# Altium footprint library MLACHD_D.PCBLIB: 41 footprints (part 2 of 3)
Each footprint in its own frame and in the unit in brackets; x right, y up, seen from the top. Pads: shape width x height; smd on the part's side, far side on the other; paste and mask are expansions set on the pad; w line width, h text height; cw(c..) or ccw(c..) is an arc to the next point about the centre after c.
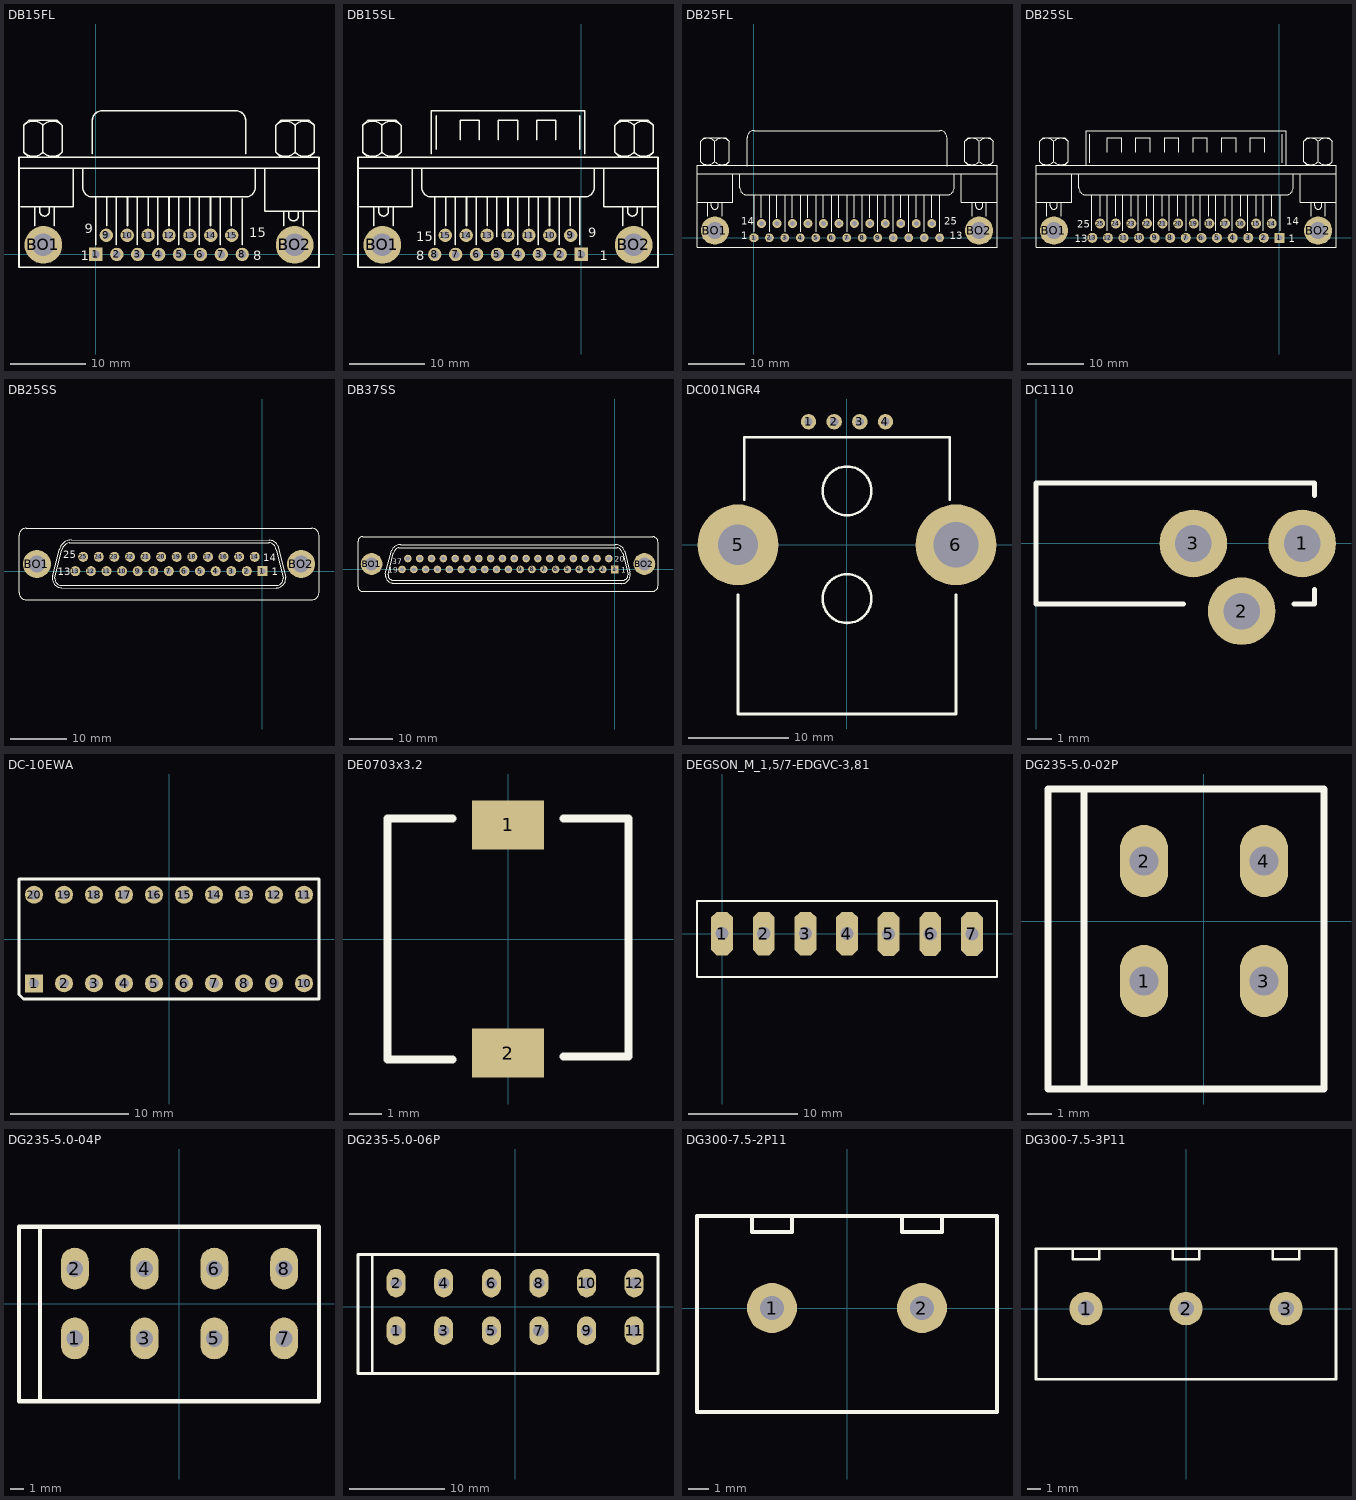
[diagram p1: the footprints below, top view; thin cyan lines are the x and y axes]

## DB15FL [mil]
pads (17):
  rect 70x70 hole 40: 1(0,0)
  round 70 hole 40: 2(109.17,0) 3(218.33,0) 4(327.5,0) 5(436.67,0) 6(545.83,0) 7(655,0) 8(764.17,0) 9(54.17,100) 10(163.33,100) 11(272.5,100) 12(381.67,100) 13(490.83,100) 14(600,100) 15(709.17,100)
  round 196.67 hole 118.33: BO1(-274.17,50) BO2(1037.5,50)
TopOverlay:
  lines w8: -401.67,450 1165,450 ; -393.33,250 -118.33,250 -118.33,450 ; -376.75,533.25 ccw(c-326.67,583.33) -276.58,533.25 ; -376.75,675.09 cw(c-326.67,625) -276.58,675.09 ; -351.67,508.33 -376.67,533.33 -376.67,675 -351.67,700 -201.67,700 -176.67,675 -176.67,533.33 -201.67,508.33 ; -318.33,150 -318.33,250 ; -293.33,250 -293.33,225 ccw(c-268.33,225) -243.33,225 -243.33,250 ; -276.75,533.25 ccw(c-226.67,583.33) -176.58,533.25 ; -276.75,675.09 cw(c-226.67,625) -176.58,675.09 ; -276.67,533.33 -276.67,675 ; -218.33,150 -218.33,250 ; -68.33,450 -68.33,350 ccw(c-18.33,350) -18.33,300 781.67,300 ccw(c781.67,350) 831.67,350 831.67,450 ; -18.33,525 -18.33,700 cw(c31.67,700) 31.67,750 731.67,750 cw(c731.67,700) 781.67,700 781.67,525 ; -1.67,50 -1.67,300 ; 56.67,150 56.67,300 ; 106.67,50 106.67,300 ; 165,150 165,300 ; 215,50 215,300 ; 273.33,150 273.33,300 ; 323.33,50 323.33,300 ; 381.67,150 381.67,300 ; 431.67,50 431.67,300 ; 490,150 490,300 ; 540,50 540,300 ; 598.33,150 598.33,300 ; 648.33,50 648.33,300 ; 706.67,150 706.67,300 ; 765,50 765,291.67 ; 881.67,450 881.67,225 1156.67,225 ; 939.91,533.25 ccw(c990,583.33) 1040.09,533.25 ; 939.91,675.09 cw(c990,625) 1040.09,675.09 ; 965,508.33 940,533.33 940,675 965,700 1115,700 1140,675 1140,533.33 1115,508.33 ; 981.67,150 981.67,225 ; 1006.67,225 1006.67,200 ccw(c1031.67,200) 1056.67,200 1056.67,225 ; 1039.91,533.25 ccw(c1090,583.33) 1140.09,533.25 ; 1039.91,675.09 cw(c1090,625) 1140.09,675.09 ; 1040,533.33 1040,675 ; 1081.67,150 1081.67,225 ; -401.67,-66.67 1165,-66.67 1165,508.33 -401.67,508.33 -401.67,-66.67
  text "1" at -78.33,-30 h50
  text "9" at -58.33,110 h50
  text "15" at 801.67,90 h50
  text "8" at 821.67,-30 h50

## DB15SL [mil]
pads (17):
  rect 70x70 hole 40: 1(0,0)
  round 70 hole 40: 2(-109.17,0) 3(-218.33,0) 4(-327.5,0) 5(-436.67,0) 6(-545.83,0) 7(-655,0) 8(-764.17,0) 9(-54.17,100) 10(-163.33,100) 11(-272.5,100) 12(-381.67,100) 13(-490.83,100) 14(-600,100) 15(-709.17,100)
  round 196.67 hole 118.33: BO1(-1037.5,50) BO2(274.17,50)
TopOverlay:
  lines w8: -1165,450 401.67,450 ; -1156.67,250 -881.67,250 -881.67,450 ; -1140.09,533.25 ccw(c-1090,583.33) -1039.91,533.25 ; -1140.09,675.09 cw(c-1090,625) -1039.91,675.09 ; -1115,508.33 -1140,533.33 -1140,675 -1115,700 -965,700 -940,675 -940,533.33 -965,508.33 ; -1081.67,150 -1081.67,250 ; -1056.67,250 -1056.67,225 ccw(c-1031.67,225) -1006.67,225 -1006.67,250 ; -1040.09,533.25 ccw(c-990,583.33) -939.91,533.25 ; -1040.09,675.09 cw(c-990,625) -939.91,675.09 ; -1040,533.33 -1040,675 ; -981.67,150 -981.67,250 ; -831.67,450 -831.67,350 ccw(c-781.67,350) -781.67,300 18.33,300 ccw(c18.33,350) 68.33,350 68.33,450 ; -781.67,525 -781.67,750 18.33,750 18.33,525 ; -765,50 -765,300 ; -756.67,550 -756.67,725 ; -706.67,150 -706.67,300 ; -656.67,50 -656.67,300 ; -631.67,600 -631.67,700 -531.67,700 -531.67,600 ; -598.33,150 -598.33,300 ; -548.33,50 -548.33,300 ; -490,150 -490,300 ; -440,91.67 -440,300 ; -431.67,600 -431.67,700 -331.67,700 -331.67,600 ; -381.67,150 -381.67,300 ; -331.67,50 -331.67,300 ; -273.33,150 -273.33,300 ; -231.67,600 -231.67,700 -131.67,700 -131.67,600 ; -223.33,50 -223.33,300 ; -165,150 -165,300 ; -115,50 -115,300 ; -56.67,150 -56.67,300 ; -6.67,50 -6.67,300 ; -6.67,550 -6.67,725 ; 118.33,450 118.33,250 393.33,250 ; 176.58,533.25 ccw(c226.67,583.33) 276.75,533.25 ; 176.58,675.09 cw(c226.67,625) 276.75,675.09 ; 201.67,508.33 176.67,533.33 176.67,675 201.67,700 351.67,700 376.67,675 376.67,533.33 351.67,508.33 ; 218.33,150 218.33,250 ; 243.33,250 243.33,225 ccw(c268.33,225) 293.33,225 293.33,250 ; 276.58,533.25 ccw(c326.67,583.33) 376.75,533.25 ; 276.58,675.09 cw(c326.67,625) 376.75,675.09 ; 276.67,533.33 276.67,675 ; 318.33,150 318.33,250 ; -1165,-66.67 -1165,508.33 401.67,508.33 401.67,-66.67 -1165,-66.67
  text "15" at -861.67,70 h50
  text "8" at -861.67,-30 h50
  text "1" at 98.33,-30 h50
  text "9" at 38.33,90 h50

## DB25FL [mil]
pads (27):
  oct 62x62 hole 35: 1(0,0)
  round 62 hole 35: 2(108.33,0) 3(216.67,0) 4(325,0) 5(433.33,0) 6(541.67,0) 7(650,0) 8(758.33,0) 9(866.67,0) 10(975,0) 11(1083.33,0) 12(1191.67,0) 13(1300,0) 14(53.33,100) 15(161.67,100) 16(270,100) 17(378.33,100) 18(486.67,100) 19(595,100) 20(703.33,100) 21(811.67,100) 22(920,100) 23(1028.33,100) 24(1136.67,100) 25(1245,100)
  round 196.67 hole 118.33: BO1(-273.33,50) BO2(1576.67,50)
TopOverlay:
  lines w8: -398.33,250 -148.33,250 -148.33,450 ; -398.33,450 1701.67,450 ; -373.42,533.25 ccw(c-323.33,583.33) -273.25,533.25 ; -373.42,675.09 cw(c-323.33,625) -273.25,675.09 ; -348.33,508.33 -373.33,533.33 -373.33,675 -348.33,700 -198.33,700 -173.33,675 -173.33,533.33 -198.33,508.33 ; -323.33,150 -323.33,250 ; -298.33,250 -298.33,225 ccw(c-273.33,225) -248.33,225 -248.33,250 ; -273.42,533.25 ccw(c-223.33,583.33) -173.25,533.25 ; -273.42,675.09 cw(c-223.33,625) -173.25,675.09 ; -273.33,533.33 -273.33,675 ; -223.33,150 -223.33,250 ; -98.33,450 -98.33,350 ccw(c-48.33,350) -48.33,300 1351.67,300 ccw(c1351.67,350) 1401.67,350 1401.67,450 ; -48.33,500 -48.33,700 cw(c1.67,700) 1.67,750 1301.67,750 cw(c1301.67,700) 1351.67,700 1351.67,500 ; 1.67,41.67 1.67,300 ; 51.67,141.67 51.67,300 ; 110,41.67 110,300 ; 160,141.67 160,300 ; 218.33,41.67 218.33,300 ; 268.33,141.67 268.33,300 ; 326.67,41.67 326.67,300 ; 376.67,141.67 376.67,300 ; 435,41.67 435,300 ; 485,141.67 485,300 ; 543.33,41.67 543.33,300 ; 593.33,141.67 593.33,300 ; 651.67,41.67 651.67,300 ; 701.67,141.67 701.67,300 ; 760,41.67 760,300 ; 810,141.67 810,300 ; 868.33,41.67 868.33,300 ; 918.33,141.67 918.33,300 ; 976.67,41.67 976.67,300 ; 1026.67,141.67 1026.67,300 ; 1085,41.67 1085,300 ; 1135,141.67 1135,300 ; 1193.33,41.67 1193.33,300 ; 1243.33,141.67 1243.33,300 ; 1301.67,41.67 1301.67,300 ; 1451.67,450 1451.67,250 1701.67,250 ; 1476.58,533.25 ccw(c1526.67,583.33) 1576.75,533.25 ; 1476.58,675.09 cw(c1526.67,625) 1576.75,675.09 ; 1501.67,508.33 1476.67,533.33 1476.67,675 1501.67,700 1651.67,700 1676.67,675 1676.67,533.33 1651.67,508.33 ; 1526.67,150 1526.67,250 ; 1551.67,250 1551.67,225 ccw(c1576.67,225) 1601.67,225 1601.67,250 ; 1576.58,533.25 ccw(c1626.67,583.33) 1676.75,533.25 ; 1576.58,675.09 cw(c1626.67,625) 1676.75,675.09 ; 1576.67,533.33 1576.67,675 ; 1626.67,150 1626.67,250 ; -398.33,-66.67 -398.33,508.33 1701.67,508.33 1701.67,-66.67 -398.33,-66.67
  text "13" at 1371.67,-10 h50
  text "25" at 1331.67,90 h50
  text "14" at -88.33,90 h50
  text "1" at -88.33,-10 h50

## DB25SL [mil]
pads (27):
  rect 70x70 hole 40: 1(0,0)
  round 70 hole 40: 2(-109.17,0) 3(-218.33,0) 4(-327.5,0) 5(-436.67,0) 6(-545.83,0) 7(-655,0) 8(-764.17,0) 9(-873.33,0) 10(-982.5,0) 11(-1091.67,0) 12(-1200.83,0) 13(-1310,0) 14(-54.17,100) 15(-163.33,100) 16(-272.5,100) 17(-381.67,100) 18(-490.83,100) 19(-600,100) 20(-709.17,100) 21(-818.33,100) 22(-927.5,100) 23(-1036.67,100) 24(-1145.83,100) 25(-1255,100)
  round 196.67 hole 118.33: BO1(-1579.17,50) BO2(270.83,50)
TopOverlay:
  lines w8: -1704.17,250 -1454.17,250 -1454.17,450 ; -1704.17,450 395.83,450 ; -1679.25,533.25 ccw(c-1629.17,583.33) -1579.08,533.25 ; -1679.25,675.09 cw(c-1629.17,625) -1579.08,675.09 ; -1654.17,508.33 -1679.17,533.33 -1679.17,675 -1654.17,700 -1504.17,700 -1479.17,675 -1479.17,533.33 -1504.17,508.33 ; -1629.17,150 -1629.17,250 ; -1604.17,250 -1604.17,225 ccw(c-1579.17,225) -1554.17,225 -1554.17,250 ; -1579.25,533.25 ccw(c-1529.17,583.33) -1479.08,533.25 ; -1579.25,675.09 cw(c-1529.17,625) -1479.08,675.09 ; -1579.17,533.33 -1579.17,675 ; -1529.17,150 -1529.17,250 ; -1404.17,450 -1404.17,350 ccw(c-1354.17,350) -1354.17,300 45.83,300 ccw(c45.83,350) 95.83,350 95.83,450 ; -1354.17,508.33 -1354.17,750 45.83,750 45.83,508.33 ; -1329.17,525 -1329.17,725 ; -1312.5,50 -1312.5,300 ; -1254.17,150 -1254.17,300 ; -1204.17,50 -1204.17,300 ; -1204.17,600 -1204.17,700 -1104.17,700 -1104.17,600 ; -1145.83,150 -1145.83,300 ; -1095.83,50 -1095.83,300 ; -1037.5,150 -1037.5,300 ; -1004.17,600 -1004.17,700 -904.17,700 -904.17,600 ; -987.5,50 -987.5,300 ; -929.17,150 -929.17,300 ; -879.17,50 -879.17,300 ; -820.83,150 -820.83,300 ; -804.17,600 -804.17,700 -704.17,700 -704.17,600 ; -770.83,50 -770.83,300 ; -712.5,150 -712.5,300 ; -654.17,50 -654.17,300 ; -604.17,150 -604.17,300 ; -604.17,600 -604.17,700 -504.17,700 -504.17,600 ; -554.17,50 -554.17,300 ; -495.83,150 -495.83,300 ; -445.83,50 -445.83,300 ; -404.17,600 -404.17,700 -304.17,700 -304.17,600 ; -379.17,150 -379.17,300 ; -329.17,50 -329.17,300 ; -270.83,150 -270.83,300 ; -220.83,50 -220.83,300 ; -204.17,600 -204.17,700 -104.17,700 -104.17,600 ; -162.5,150 -162.5,300 ; -112.5,50 -112.5,300 ; -54.17,150 -54.17,300 ; 4.17,50 4.17,300 ; 20.83,525 20.83,725 ; 145.83,450 145.83,250 395.83,250 ; 170.75,533.25 ccw(c220.83,583.33) 270.92,533.25 ; 170.75,675.09 cw(c220.83,625) 270.92,675.09 ; 195.83,508.33 170.83,533.33 170.83,675 195.83,700 345.83,700 370.83,675 370.83,533.33 345.83,508.33 ; 220.83,150 220.83,250 ; 245.83,250 245.83,225 ccw(c270.83,225) 295.83,225 295.83,250 ; 270.75,533.25 ccw(c320.83,583.33) 370.92,533.25 ; 270.75,675.09 cw(c320.83,625) 370.92,675.09 ; 270.83,533.33 270.83,675 ; 320.83,150 320.83,250 ; -1704.17,-66.67 395.83,-66.67 395.83,508.33 -1704.17,508.33 -1704.17,-66.67
  text "25" at -1414.17,70 h50
  text "13" at -1434.17,-30 h50
  text "1" at 65.83,-30 h50
  text "14" at 45.83,90 h50

## DB25SS [mil]
pads (27):
  rect 70x70 hole 40: 1(0,0)
  round 70 hole 40: 2(-109.17,0) 3(-218.33,0) 4(-327.5,0) 5(-436.67,0) 6(-545.83,0) 7(-655,0) 8(-764.17,0) 9(-873.33,0) 10(-982.5,0) 11(-1091.67,0) 12(-1200.83,0) 13(-1310,0) 14(-54.17,100) 15(-163.33,100) 16(-272.5,100) 17(-381.67,100) 18(-490.83,100) 19(-600,100) 20(-709.17,100) 21(-818.33,100) 22(-927.5,100) 23(-1036.67,100) 24(-1145.83,100) 25(-1255,100)
  round 196.67 hole 118.33: BO1(-1579.17,50) BO2(270.83,50)
TopOverlay:
  lines w8: -1469.17,-35 -1420.83,150 ; -1468.85,-33.87 ccw(c-1404.17,-50) -1404.17,-116.67 95.83,-118.33 ; -1420.94,149.55 cw(c-1337.5,133.33) -1337.5,218.33 45.83,216.67 cw(c45.83,150) 107.2,176.05 ; -1404.46,149.46 cw(c-1329.17,125) -1353.63,200.29 ; -1404.17,150 -1454.17,-50 ccw(c-1404.17,-50) -1404.17,-100 95.83,-100 ccw(c95.83,-50) 145.83,-50 95.83,150 ; -1354.17,200 45.83,200 ; 45.73,200.26 cw(c37.5,141.67) 96.09,149.9 ; 95.83,-117.5 ccw(c95.83,-50) 162.83,-41.77 ; 107.5,176.67 162.5,-41.67 ; -1704.17,-150 ccw(c-1654.17,-150) -1654.17,-200 345.83,-200 ccw(c345.83,-150) 395.83,-150 395.83,250 ccw(c345.83,250) 345.83,300 -1654.17,300 ccw(c-1654.17,250) -1704.17,250 -1704.17,-150
  text "14" at 5.83,70 h50
  text "1" at 65.83,-30 h50
  text "13" at -1434.17,-30 h50
  text "25" at -1394.17,90 h50

## DB37SS [mil]
pads (39):
  rect 70x70 hole 40: 1(0,0)
  round 70 hole 40: 2(-108.33,0) 3(-216.67,0) 4(-325,0) 5(-433.33,0) 6(-541.67,0) 7(-650,0) 8(-758.33,0) 9(-866.67,0) 10(-975,0) 11(-1083.33,0) 12(-1191.67,0) 13(-1300,0) 14(-1408.33,0) 15(-1516.67,0) 16(-1625,0) 17(-1733.33,0) 18(-1841.67,0) 19(-1950,0) 20(-54.17,100) 21(-162.5,100) 22(-270.83,100) 23(-379.17,100) 24(-487.5,100) 25(-595.83,100) 26(-704.17,100) 27(-812.5,100) 28(-920.83,100) 29(-1029.17,100) 30(-1137.5,100) 31(-1245.83,100) 32(-1354.17,100) 33(-1462.5,100) 34(-1570.83,100) 35(-1679.17,100) 36(-1787.5,100) 37(-1895.83,100)
  round 200 hole 118: BO1(-2228.33,50) BO2(271.67,50)
TopOverlay:
  lines w8: -2103.33,-41.67 -2045,175 ; -2102.92,-42.16 ccw(c-2028.33,-50) -2028.33,-125 63.33,-125 ; -2044.83,175.71 cw(c-1961.67,133.33) -1961.67,226.67 5,226.67 cw(c5,133.33) 91.54,168.3 ; -2028.33,150 -2078.33,-50 ccw(c-2028.33,-50) -2028.33,-100 71.67,-100 ccw(c71.67,-50) 121.67,-50 71.67,150 ; -2027.97,149.86 cw(c-1961.67,133.33) -1978.2,199.64 ; -1978.33,200 21.67,200 ; 21.53,199.64 cw(c5,133.33) 71.3,149.86 ; 63.33,-129.17 ccw(c63.33,-50) 138.62,-25.54 ; 91.67,168.33 138.33,-25 ; -2353.33,-158.33 ccw(c-2311.67,-158.33) -2311.67,-200 346.67,-200 ccw(c346.67,-150) 396.67,-150 396.67,250 ccw(c346.67,250) 346.67,300 -2311.67,300 ccw(c-2311.67,258.33) -2353.33,258.33 -2353.33,-158.33
  text "20" at 1.67,70 h50
  text "37" at -2038.33,50 h50
  text "19" at -2078.33,-30 h50
  text "1" at 61.67,-30 h50

## DC001NGR4 [mil]
pads (6):
  round 60 hole 32: 1(-150,480) 2(-50,480) 3(50,480) 4(150,480)
  round 314.96 hole 157.48: 5(-425,0)
  round 314.96 hole 177.17: 6(425,0)
TopOverlay:
  circle w10: c0,210 r95
  circle w10: c0,-210 r95
  lines w10: -425,-195 -425,-660 425,-660 425,-195 ; -400,175 -400,420 400,420 400,175

## DC1110 [mil]
pads (3):
  round 110 hole 60: 1(433.07,0) 2(334.65,-110.24) 3(255.91,0)
TopOverlay:
  lines w8: 240,-98.43 0,-98.43 0,98.43 452.76,98.43 452.76,77.76 ; 420,-98.43 452.76,-98.43 452.76,-75

## DC-10EWA [mil]
pads (20):
  rect 60x60 hole 32: 1(-450,-147.64)
  round 60 hole 32: 2(-350,-147.64) 3(-250,-147.64) 4(-150,-147.64) 5(-50,-147.64) 6(50,-147.64) 7(150,-147.64) 8(250,-147.64) 9(350,-147.64) 10(450,-147.64) 11(450,147.64) 12(350,147.64) 13(250,147.64) 14(150,147.64) 15(50,147.64) 16(-50,147.64) 17(-150,147.64) 18(-250,147.64) 19(-350,147.64) 20(-450,147.64)
TopOverlay:
  lines w10: -500,-185 -485,-200 500,-200 500,200 -500,200 -500,-185
3D body: height 318.9, standoff 0, extent 425,-100 475,100
3D body: height 318.9, standoff 0, extent 325,-100 375,100
3D body: height 318.9, standoff 0, extent 225,-100 275,100
3D body: height 318.9, standoff 0, extent 125,-100 175,100
3D body: height 318.9, standoff 0, extent 25,-100 75,100
3D body: height 318.9, standoff 0, extent -75,-100 -25,100
3D body: height 318.9, standoff 0, extent -175,-100 -125,100
3D body: height 318.9, standoff 0, extent -275,-100 -225,100
3D body: height 318.9, standoff 0, extent -375,-100 -325,100
3D body: height 318.9, standoff 0, extent -475,-100 -425,100
3D body: height 314.96, standoff 0, extent -500,-200 500,200

## DE0703x3.2 [mm]
pads (2):
  rect 2.2x1.5 smd: 1(0,3.5) 2(0,-3.5)
TopOverlay:
  lines w0.25: -1.7,-3.7 -3.7,-3.7 -3.7,3.7 -1.7,3.7 ; 1.7,-3.6 3.7,-3.6 3.7,3.7 1.7,3.7
3D body: height 3.25, standoff 0, extent -3,-3 2.976,2.988
3D body: height 0.5, standoff 0, extent -0.9,3.7 0.9,4
3D body: height 0.5, standoff 0, extent -0.9,-4 0.9,-3.7
3D body: height 3.2, standoff 0, extent -3.7,-3.7 3.7,3.7

## DEGSON_M_1,5/7-EDGVC-3,81 [mm]
height 18
pads (7):
  oct 2x4 hole 1.2 paste+1: 1(0,0) 2(3.81,0) 3(7.62,0) 4(11.43,0) 5(15.25,-0.025) 6(19.06,-0.025) 7(22.87,-0.025)
TopOverlay:
  lines w0.2: -2.3,-3.975 25.17,-3.975 25.17,2.925 ; -2.3,-3.9 -2.3,3 25.17,3

## DG235-5.0-02P [mm]
pads (4):
  oval 2x3 hole 1.2: 1(-2.5,-2.5) 2(-2.5,2.5) 3(2.5,-2.5) 4(2.5,2.5)
TopOverlay:
  lines w0.3: -5,-7 -5,5.5 ; -5,-7 5,-7 5,5.5 -5,5.5 ; -5,-7 -6.5,-7 -6.5,5.5 -5,5.5
3D body: height 13, standoff 0, extent -4.7,-2 -0.9,2.5
3D body: height 14.5, standoff 0, extent -3.6,-0.5 -2.1,0.6
3D body: height 15.5, standoff 14, extent -4.7,-2 -0.9,2.5
3D body: height 15.5, standoff 14, extent 0.3,-2 4.1,2.5
3D body: height 14.5, standoff 0, extent 1.4,-0.5 2.9,0.6
3D body: height 13, standoff 0, extent 0.3,-2 4.1,2.5
3D body: height 10, standoff 0, extent -6.5,-7 5,5.5

## DG235-5.0-04P [mm]
pads (8):
  oval 2x3 hole 1.2: 1(-7.5,-2.5) 2(-7.5,2.5) 3(-2.5,-2.5) 4(-2.5,2.5) 5(2.5,-2.5) 6(2.5,2.5) 7(7.5,-2.5) 8(7.5,2.5)
TopOverlay:
  lines w0.3: -10,-7 -11.5,-7 -11.5,5.5 -10,5.5 ; -10,-7 10,-7 10,5.5 -10,5.5 ; -10,-7 -10,5.5
3D body: height 10, standoff 0, extent -11.5,-7 10,5.5
3D body: height 13, standoff 0, extent 5.3,-2 9.1,2.5
3D body: height 14.5, standoff 0, extent 6.4,-0.5 7.9,0.6
3D body: height 15.5, standoff 14, extent 5.3,-2 9.1,2.5
3D body: height 13, standoff 0, extent 0.3,-2 4.1,2.5
3D body: height 14.5, standoff 0, extent 1.4,-0.5 2.9,0.6
3D body: height 15.5, standoff 14, extent 0.3,-2 4.1,2.5
3D body: height 13, standoff 0, extent -4.7,-2 -0.9,2.5
3D body: height 14.5, standoff 0, extent -3.6,-0.5 -2.1,0.6
3D body: height 15.5, standoff 14, extent -4.7,-2 -0.9,2.5
3D body: height 15.5, standoff 14, extent -9.7,-2 -5.9,2.5
3D body: height 14.5, standoff 0, extent -8.6,-0.5 -7.1,0.6
3D body: height 13, standoff 0, extent -9.7,-2 -5.9,2.5

## DG235-5.0-06P [mm]
pads (12):
  oval 2x3 hole 1.2: 1(-12.5,-2.5) 2(-12.5,2.5) 3(-7.5,-2.5) 4(-7.5,2.5) 5(-2.5,-2.5) 6(-2.5,2.5) 7(2.5,-2.5) 8(2.5,2.5) 9(7.5,-2.5) 10(7.5,2.5) 11(12.5,-2.5) 12(12.5,2.5)
TopOverlay:
  lines w0.3: -15,-7 -16.5,-7 -16.5,5.5 -15,5.5 ; -15,-7 15,-7 15,5.5 -15,5.5 ; -15,-7 -15,5.5
3D body: height 10, standoff 0, extent -16.5,-7 15,5.5
3D body: height 13, standoff 0, extent 10.3,-2 14.1,2.5
3D body: height 14.5, standoff 0, extent 11.4,-0.5 12.9,0.6
3D body: height 15.5, standoff 14, extent 10.3,-2 14.1,2.5
3D body: height 13, standoff 0, extent 5.3,-2 9.1,2.5
3D body: height 14.5, standoff 0, extent 6.4,-0.5 7.9,0.6
3D body: height 15.5, standoff 14, extent 5.3,-2 9.1,2.5
3D body: height 13, standoff 0, extent 0.3,-2 4.1,2.5
3D body: height 14.5, standoff 0, extent 1.4,-0.5 2.9,0.6
3D body: height 15.5, standoff 14, extent 0.3,-2 4.1,2.5
3D body: height 13, standoff 0, extent -4.7,-2 -0.9,2.5
3D body: height 14.5, standoff 0, extent -3.6,-0.5 -2.1,0.6
3D body: height 15.5, standoff 14, extent -4.7,-2 -0.9,2.5
3D body: height 13, standoff 0, extent -9.7,-2 -5.9,2.5
3D body: height 14.5, standoff 0, extent -8.6,-0.5 -7.1,0.6
3D body: height 15.5, standoff 14, extent -9.7,-2 -5.9,2.5
3D body: height 15.5, standoff 14, extent -14.7,-2 -10.9,2.5
3D body: height 14.5, standoff 0, extent -13.6,-0.5 -12.1,0.6
3D body: height 13, standoff 0, extent -14.7,-2 -10.9,2.5

## DG300-7.5-2P11 [mm]
pads (2):
  round 2.5 hole 1.2: 1(-3.75,0) 2(3.75,0)
TopOverlay:
  lines w0.203: -4.75,4.6 -4.75,3.8 -2.75,3.8 -2.75,4.6 ; 2.75,4.6 2.75,3.8 4.75,3.8 4.75,4.6 ; -7.5,-5.2 -7.5,4.6 7.5,4.6 7.5,-5.2 -7.5,-5.2
3D body: height 13.8, standoff -3.5, extent -7.471,-5.2 8.27,4.6

## DG300-7.5-3P11 [mm]
pads (3):
  round 2.5 hole 1.2: 1(-7.5,0) 2(0,0) 3(7.5,0)
TopOverlay:
  lines w0.203: -8.5,4.5 -8.5,3.7 -6.5,3.7 -6.5,4.5 ; -1,4.5 -1,3.7 1,3.7 1,4.5 ; 6.5,4.5 6.5,3.7 8.5,3.7 8.5,4.5 ; -11.25,-5.3 -11.25,4.5 11.25,4.5 11.25,-5.3 -11.25,-5.3
3D body: height 13.8, standoff -3.5, extent -11.22,-5.2 12.02,4.6